# Altium footprint library CustomFootprints.PcbLib: 67 footprints (part 2 of 5)
Each footprint in its own frame and in the unit in brackets; x right, y up, seen from the top. Pads: shape width x height; smd on the part's side, far side on the other; paste and mask are expansions set on the pad; w line width, h text height; cw(c..) or ccw(c..) is an arc to the next point about the centre after c.
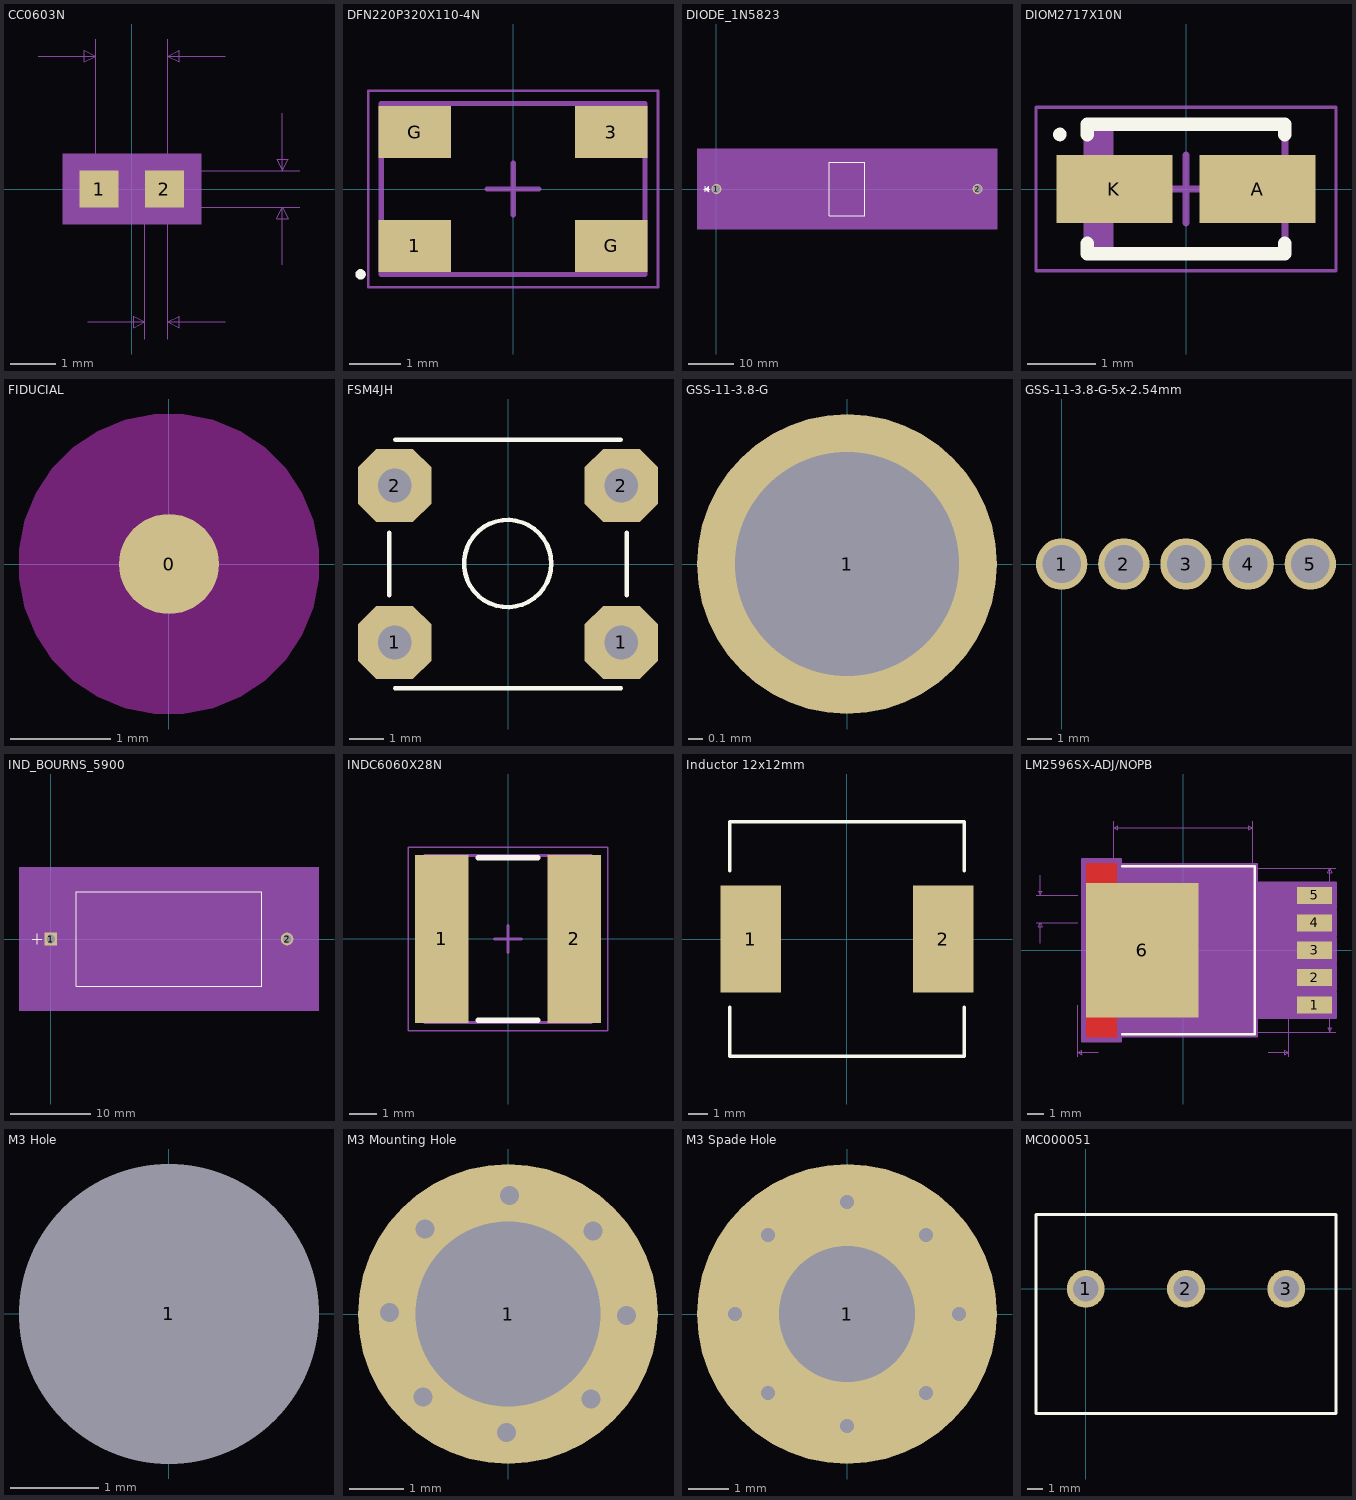
[diagram p1: the footprints below, top view; thin cyan lines are the x and y axes]

## CC0603N [mil]
pads (2):
  rect 34x32 smd: 1(-28.5,0) 2(28.5,0)
Mechanical 5:
  region: 60.5,-31 -60.5,-31 -60.5,31 60.5,31
Mechanical 7:
  lines w1: -81.5,116 -31.5,116 ; -38.5,-116 11.5,-116 ; -31.5,0 -31.5,131 ; 0,-16 146.5,-16 ; 0,16 146.5,16 ; 11.5,-131 11.5,0 ; 31.5,-131 31.5,0 31.5,131 ; 81.5,-116 31.5,-116 ; 81.5,116 31.5,116 ; 131.5,-66 131.5,-16 ; 131.5,66 131.5,16 ; -31.5,116 -41.5,111 -41.5,121 -31.5,116 ; 11.5,-116 1.5,-121 1.5,-111 11.5,-116 ; 31.5,-116 41.5,-121 41.5,-111 31.5,-116 ; 31.5,116 41.5,111 41.5,121 31.5,116 ; 131.5,-16 136.5,-26 126.5,-26 131.5,-16 ; 131.5,16 136.5,26 126.5,26 131.5,16
  text "0.02in/0.508mm" at -66,-161 h25
  text "0.063in/1.6mm" at -81.25,136 h25
  text "0.032in/0.813mm" at 151.5,-12.5 h25
  text "Alternate 2 Padstyle: OX90Y60D30P" at -412.5,-486 h50
  text "Alternate 1 Padstyle: OX60Y90D30P" at -412.5,-386 h50
  text "Default Padstyle: RX34Y32D0T" at -350,-286 h50
Mechanical 13:
  lines w1: -31.5,-16 -31.5,16 ; -31.5,-16 31.5,-16 ; -31.5,-16 -11.5,-16 -11.5,16 -31.5,16 ; -31.5,-16 -31.5,16 ; -31.5,16 31.5,16 ; 31.5,-16 31.5,16 ; 31.5,-16 31.5,16 ; 31.5,-16 11.5,-16 11.5,16 31.5,16
Mechanical 15:
  region: 55.5,-26 -55.5,-26 -55.5,26 55.5,26
  lines w6: -55.5,-26 55.5,-26 55.5,26 -55.5,26 -55.5,-26
3D body: height 10, standoff 0, extent 0,0 10,10

## DFN220P320X110-4N [mm] "DFN, 4-Leads, Body 5.00x3.20mm, Pitch 2.20mm, IPC Medium Density"
height 1.1
pads (4):
  rect 1.4x1 smd: 1(-1.9,-1.1) 3(1.9,1.1) G(-1.9,1.1) G(1.9,-1.1)
Top Overlay:
  circle w0.1: c-2.95,-1.65 r0.05
Mechanical 13:
  lines w0.1: -2.55,-1.65 -2.55,1.65 2.55,1.65 2.55,-1.65 -2.55,-1.65
Mechanical 15:
  lines w0.05: -2.8,-1.9 -2.8,1.9 2.8,1.9 2.8,-1.9 -2.8,-1.9
  lines w0.1: -0.5,0 0.5,0 ; 0,-0.5 0,0.5
3D body: height 1.1, standoff 0, extent -2.55,-1.65 2.55,1.65

## DIODE_1N5823 [mil]
pads (2):
  round 86 hole 66 mask+0: 1(0,0) 2(2260,0)
Top Overlay:
  lines w6: -108,0 -58,0 ; -98,-25 -98,25 ; -68,-20 -98,0 ; -68,-15 -98,0 ; -68,-10 -98,0 ; -68,-5 -98,0 ; -68,5 -98,0 ; -68,10 -98,0 ; -68,15 -98,0 ; -68,20 -98,0 ; -98,0 -68,25 -68,-25 -98,0 ; 975,-230 1285,-230 1285,230 975,230 975,-230
Mechanical 5:
  region: 2428,-350 -168,-350 -168,350 2428,350
Mechanical 7:
  lines w1: 0,-290 0,0 ; 980,225 980,290 ; 1280,-225 2375,-225 ; 1280,290 1280,225 2375,225 ; 2260,-290 2260,0 ; 0,-275 2260,-275 ; 0,-275 10,-270 10,-280 0,-275 ; 980,275 1280,275 ; 980,275 990,280 990,270 980,275 ; 1280,275 1270,280 1270,270 1280,275 ; 2260,-275 2250,-270 2250,-280 2260,-275 ; 2360,-225 2360,225 ; 2360,-225 2355,-215 2365,-215 2360,-225 ; 2360,225 2355,215 2365,215 2360,225
  text "Default Pad Style: EX86Y86D66P" at 755,-500 h50
  text "Alt 1 Pad Style: OX60Y90D30P" at 780,-575 h50
  text "Alt 2 Pad Style: OX90Y60D30P" at 780,-650 h50
  text "0.45in/11.43mm" at 2380,-12.5 h25
  text "2.26in/57.404mm" at 1036.25,-320 h25
  text "0.3in/7.62mm" at 1055,295 h25
Mechanical 13:
  lines w1: -108,0 -58,0 ; -98,-25 -98,25 ; -68,-20 -98,0 ; -68,-15 -98,0 ; -68,-10 -98,0 ; -68,-5 -98,0 ; -68,5 -98,0 ; -68,10 -98,0 ; -68,15 -98,0 ; -68,20 -98,0 ; 0,0 980,0 ; 1280,0 2260,0 ; -98,0 -68,25 -68,-25 -98,0 ; 980,-225 1280,-225 1280,225 980,225 980,-225
Mechanical 15:
  region: 970,-53 -53,-53 -53,53 970,53 970,235 1290,235 1290,53 2313,53 2313,-53 1290,-53 1290,-235 970,-235
  lines w6: -53,-53 -53,53 970,53 970,235 1290,235 1290,53 2313,53 2313,-53 1290,-53 1290,-235 970,-235 970,-53 -53,-53
3D body: height 10, standoff 0, extent 0,0 10,10

## DIOM2717X10N [mm] "Molded Diode, 2-Leads, Body 2.70x1.65mm, IPC Medium Density"
height 1
pads (2):
  rect 1.7x1 smd: A(1.05,0) K(-1.05,0)
Top Overlay:
  circle w0.1: c-1.85,0.8 r0.05
  lines w0.2: -1.45,-0.8 -1.45,-0.95 1.45,-0.95 1.45,-0.8 ; -1.45,0.8 -1.45,0.95 1.45,0.95 1.45,0.8
Mechanical 13:
  rectangle: -1.45,-0.9 -1.06,0.9
  lines w0.1: -1.45,-0.9 -1.45,0.9 1.45,0.9 1.45,-0.9 -1.45,-0.9
Mechanical 15:
  lines w0.05: -2.2,-1.2 -2.2,1.2 2.2,1.2 2.2,-1.2 -2.2,-1.2
  lines w0.1: -0.5,0 0.5,0 ; 0,-0.5 0,0.5
3D body: height 1, standoff 0, extent -1.45,-0.9 1.45,0.9

## FIDUCIAL [mm] "1mm fiducial with 3mm keepout"
pads (1):
  round 1 smd paste-1 mask+0.5: 0(0,0)
Keep-Out Layer:
  region: 0,-1.5 -0.148,-1.5 -0.438,-1.442 -0.711,-1.329 -0.956,-1.165 -1.165,-0.956 -1.329,-0.711 -1.442,-0.438 -1.5,-0.148 -1.5,0 -1.5,0.148 -1.442,0.438 -1.329,0.711 -1.165,0.956 -0.956,1.165 -0.711,1.329 -0.438,1.442 -0.148,1.5 0,1.5 0.148,1.5 0.438,1.442 0.711,1.329 0.956,1.165 1.165,0.956 1.329,0.711 1.442,0.438 1.5,0.148 1.5,0 1.5,-0.148 1.442,-0.438 1.329,-0.711 1.165,-0.956 0.956,-1.165 0.711,-1.329 0.438,-1.442 0.148,-1.5

## FSM4JH [mm] "SWITCH, SPNO, 0.05A"
height 5
pads (4):
  oct 2.1x2.1 hole 0.965: 1(-3.25,-2.25) 1(3.25,-2.25) 2(-3.25,2.25) 2(3.25,2.25)
Top Overlay:
  circle w0.127: c-0.011,0.014 r1.25
  lines w0.127: -3.4,-0.9 -3.4,0.9 ; -3.239,-3.556 3.24,-3.556 ; -3.236,3.556 3.236,3.556 ; 3.4,-0.9 3.4,0.9

## GSS-11-3.8-G [mm] "Contact Probe"
height 8.75
pads (1):
  round 2.1 hole 1.57: 1(0,0)

## GSS-11-3.8-G-5x-2.54mm [mm] "Contact Probe x5"
height 8.75
pads (5):
  round 2.1 hole 1.57: 1(0,0) 2(2.54,0) 3(5.08,0) 4(7.62,0) 5(10.16,0)

## IND_BOURNS_5900 [mil]
pads (2):
  rect 62x62 hole 42 mask+0: 1(0,0)
  round 62 hole 42 mask+0: 2(1156,0)
Top Overlay:
  lines w6: -91,0 -44.1,0 ; -66,-25 -66,25 ; 123,-231.5 1033,-231.5 1033,231.5 123,231.5 123,-231.5
Mechanical 5:
  region: 1312,-351.5 -156,-351.5 -156,351.5 1312,351.5
Mechanical 7:
  lines w1: 0,-291.5 0,0 ; 128,226.5 128,291.5 ; 1028,-226.5 1271,-226.5 ; 1028,291.5 1028,226.5 1271,226.5 ; 1156,-291.5 1156,0 ; 0,-276.5 1156,-276.5 ; 0,-276.5 10,-271.5 10,-281.5 0,-276.5 ; 128,276.5 1028,276.5 ; 128,276.5 138,281.5 138,271.5 128,276.5 ; 1028,276.5 1018,281.5 1018,271.5 1028,276.5 ; 1156,-276.5 1146,-271.5 1146,-281.5 1156,-276.5 ; 1256,-226.5 1256,226.5 ; 1256,-226.5 1251,-216.5 1261,-216.5 1256,-226.5 ; 1256,226.5 1251,216.5 1261,216.5 1256,226.5
  text "Pin 1 Pad Style: SX62Y62D42P" at 228,-426.5 h50
  text "Default Pad Style: EX62Y62D42P" at 203,-501.5 h50
  text "Alt 1 Pad Style: OX60Y90D30P" at 228,-576.5 h50
  text "Alt 2 Pad Style: OX90Y60D30P" at 228,-651.5 h50
  text "0.453in/11.506mm" at 1276,-12.5 h25
  text "1.156in/29.362mm" at 478,-321.5 h25
  text "0.9in/22.86mm" at 496.75,296.5 h25
Mechanical 13:
  lines w1: -91,0 -41,0 ; -66,-25 -66,25 ; 0,0 128,0 ; 1028,0 1156,0 ; 128,-226.5 1028,-226.5 1028,226.5 128,226.5 128,-226.5
Mechanical 15:
  region: 118,-41 -41,-41 -41,41 118,41 118,236.5 1038,236.5 1038,41 1197,41 1197,-41 1038,-41 1038,-236.5 118,-236.5
  lines w6: -41,-41 -41,41 118,41 118,236.5 1038,236.5 1038,41 1197,41 1197,-41 1038,-41 1038,-236.5 118,-236.5 118,-41 -41,-41
3D body: height 10, standoff 0, extent 0,0 10,10

## INDC6060X28N [mm] "Chip Inductor, 2-Leads, Body 6.00x6.00mm, IPC Medium Density"
height 2.8
pads (2):
  rect 1.98x6.22 smd: 1(-2.46,0) 2(2.46,0)
Top Overlay:
  lines w0.2: -1.1,-3.01 1.1,-3.01 ; -1.1,3.01 1.1,3.01
Mechanical 13:
  lines w0.1: -3.1,-3.1 -3.1,3.1 3.1,3.1 3.1,-3.1 -3.1,-3.1
Mechanical 15:
  lines w0.05: -3.7,-3.4 -3.7,3.4 3.7,3.4 3.7,-3.4 -3.7,-3.4
  lines w0.1: -0.5,0 0.5,0 ; 0,-0.5 0,0.5
3D body: height 2.8, standoff 0, extent -1.75,-3.1 1.75,3.1
3D body: height 2.8, standoff 0, extent -3.1,-3.1 -1.75,3.1
3D body: height 2.8, standoff 0, extent 1.75,-3.1 3.1,3.1

## Inductor 12x12mm [mm]
pads (2):
  rect 3.1x5.5 smd: 1(-4.925,0) 2(4.925,0)
Top Overlay:
  lines w0.2: -6,-3.5 -6,-6 6,-6 6,-3.5 ; -6,3.5 -6,6 6,6 6,3.5

## LM2596SX-ADJ/NOPB [mil]
pads (6):
  rect 85x42 smd paste+0 mask+0: 1(321,-134) 2(321,-67) 3(321,0) 4(321,67) 5(321,134)
  rect 275x328 smd paste-163.5 mask+0: 6(-100,0)
Top Layer:
  region: -237.5,-212.5 -237.5,212.5 -162.5,212.5 -162.5,-212.5
Top Overlay:
  lines w6: -149.4,-205 175,-205 175,205 -149.4,205
Top Paste:
  region: -86.44,160.06 -133.56,160.06 -133.56,113.27 -86.44,113.27
  region: -86.44,105.4 -133.56,105.4 -133.56,58.6 -86.44,58.6
  region: -86.44,50.73 -133.56,50.73 -133.56,3.94 -86.44,3.94
  region: -86.44,-3.94 -133.56,-3.94 -133.56,-50.73 -86.44,-50.73
  region: -86.44,-58.6 -133.56,-58.6 -133.56,-105.4 -86.44,-105.4
  region: -86.44,-113.27 -133.56,-113.27 -133.56,-160.06 -86.44,-160.06
  region: -31.44,160.06 -78.56,160.06 -78.56,113.27 -31.44,113.27
  region: -31.44,105.4 -78.56,105.4 -78.56,58.6 -31.44,58.6
  region: -31.44,50.73 -78.56,50.73 -78.56,3.94 -31.44,3.94
  region: -31.44,-3.94 -78.56,-3.94 -78.56,-50.73 -31.44,-50.73
  region: -31.44,-58.6 -78.56,-58.6 -78.56,-105.4 -31.44,-105.4
  region: -31.44,-113.27 -78.56,-113.27 -78.56,-160.06 -31.44,-160.06
  region: 23.56,160.06 -23.56,160.06 -23.56,113.27 23.56,113.27
  region: 23.56,105.4 -23.56,105.4 -23.56,58.6 23.56,58.6
  region: 23.56,50.73 -23.56,50.73 -23.56,3.94 23.56,3.94
  region: 23.56,-3.94 -23.56,-3.94 -23.56,-50.73 23.56,-50.73
  region: 23.56,-58.6 -23.56,-58.6 -23.56,-105.4 23.56,-105.4
  region: 23.56,-113.27 -23.56,-113.27 -23.56,-160.06 23.56,-160.06
  region: 78.56,160.06 31.44,160.06 31.44,113.27 78.56,113.27
  region: 78.56,105.4 31.44,105.4 31.44,58.6 78.56,58.6
  region: 78.56,50.73 31.44,50.73 31.44,3.94 78.56,3.94
  region: 78.56,-3.94 31.44,-3.94 31.44,-50.73 78.56,-50.73
  region: 78.56,-58.6 31.44,-58.6 31.44,-105.4 78.56,-105.4
  region: 78.56,-113.27 31.44,-113.27 31.44,-160.06 78.56,-160.06
  region: 133.56,160.06 86.44,160.06 86.44,113.27 133.56,113.27
  region: 133.56,105.4 86.44,105.4 86.44,58.6 133.56,58.6
  region: 133.56,50.73 86.44,50.73 86.44,3.94 133.56,3.94
  region: 133.56,-3.94 86.44,-3.94 86.44,-50.73 133.56,-50.73
  region: 133.56,-58.6 86.44,-58.6 86.44,-105.4 133.56,-105.4
  region: 133.56,-113.27 86.44,-113.27 86.44,-160.06 133.56,-160.06
  region: -237.5,-212.5 -237.5,212.5 -162.5,212.5 -162.5,-212.5
Top Solder:
  region: -237.5,-212.5 -237.5,212.5 -162.5,212.5 -162.5,-212.5
Mechanical 5:
  region: -247.5,-222.5 -247.5,222.5 -152.5,222.5 -152.5,210 180,210 180,165 373.5,165 373.5,-165 180,-165 180,-210 -152.5,-210 -152.5,-222.5
Mechanical 7:
  lines w1: -360.25,67 -257.75,67 ; -360.25,134 -257.75,134 ; -350.25,17 -350.25,67 ; -350.25,184 -350.25,134 ; -257.75,-260 -257.75,-134 ; -207.75,-250 -257.75,-250 ; -170,200 -170,315 ; 170,-200 372.75,-200 ; 170,315 170,200 372.75,200 ; 207.75,-250 257.75,-250 ; 257.75,-260 257.75,-134 ; -350.25,67 -345.25,57 -355.25,57 -350.25,67 ; -350.25,134 -345.25,144 -355.25,144 -350.25,134 ; -257.75,-250 -247.75,-255 -247.75,-245 -257.75,-250 ; -170,300 170,300 ; -170,300 -160,305 -160,295 -170,300 ; 170,300 160,305 160,295 170,300 ; 257.75,-250 247.75,-255 247.75,-245 257.75,-250 ; 357.75,-200 357.75,200 ; 357.75,-200 352.75,-190 362.75,-190 357.75,-200 ; 357.75,200 352.75,190 362.75,190 357.75,200
  text "Default Padstyle: RX85Y42D0T" at -350,-400 h50
  text "Pin 1 Padstyle: RX85Y42D0T" at -325,-460 h50
  text "Heat Tab Padstyle: RX275Y328D0T" at -387.5,-520 h50
  text "Alt 1 Padstyle: OX60Y90D30P" at -337.5,-640 h50
  text "Alt 2 Padstyle: OX90Y60D30P" at -337.5,-700 h50
  text ".067in/1.702mm" at -535.25,88 h25
  text ".5155in/13.094mm" at -100,-275 h25
  text "0.34in/8.636mm" at -87.5,320 h25
  text "0.4in/10.16mm" at 377.75,-12.5 h25
Mechanical 13:
  circle w0: c-160,134 r3
  lines w0: -12,200 ccw(c0,200) 12,200
  lines w1: -170,-200 170,-200 170,200 -170,200 -170,-200
Mechanical 15:
  region: -247.5,-222.5 -247.5,222.5 -152.5,222.5 -152.5,210 180,210 180,165 373.5,165 373.5,-165 180,-165 180,-210 -152.5,-210 -152.5,-222.5
  lines w6: 175,98.29 373.5,98 373.5,36 180,36 180,31 373.5,31 373.5,-31 180,-31 180,-36 373.5,-36 373.5,-98 180,-98 180,-103 373.5,-103 373.5,-165 180,-165 180,-210 ; 180,98 180,103 373.5,103 373.5,165 180,165 180,210 -152.5,210 ; -152.5,-210 180,-210 ; -152.5,-210 180,-210 ; -152.5,-210 -152.5,-222.5 -247.5,-222.5 -247.5,222.5 -152.5,222.5 ; -152.5,210 -152.5,222.5 ; -152.5,210 -152.5,222.5
3D body: height 10, standoff 0, extent 0,0 10,10

## M3 Hole [mm] "M3 Hole with no copper"
pads (1):
  round 3 hole 3.4 unplated: 1(0,0)

## M3 Mounting Hole [mm]
pads (1):
  round 5.5 hole 3.4: 1(0,0)
via 1.52,-1.556 diameter 0.7 hole 0.35
via -0.025,-2.175 diameter 0.7 hole 0.35
via -1.556,-1.52 diameter 0.7 hole 0.35
via -2.175,0.025 diameter 0.7 hole 0.35
via -1.52,1.556 diameter 0.7 hole 0.35
via 0.025,2.175 diameter 0.7 hole 0.35
via 1.556,1.52 diameter 0.7 hole 0.35
via 2.175,-0.025 diameter 0.7 hole 0.35

## M3 Spade Hole [mm]
pads (1):
  round 7.5 hole 3.4: 1(0,0)
via 2.8,0 diameter 0.7 hole 0.35
via 1.98,1.98 diameter 0.7 hole 0.35
via 0,2.8 diameter 0.7 hole 0.35
via -1.98,1.98 diameter 0.7 hole 0.35
via -2.8,0 diameter 0.7 hole 0.35
via -1.98,-1.98 diameter 0.7 hole 0.35
via 0,-2.8 diameter 0.7 hole 0.35
via 1.98,-1.98 diameter 0.7 hole 0.35

## MC000051 [mm] "TERMINAL BLOCK, WIRE TO BRD, 3POS, 10AWG"
height 22
pads (3):
  round 2.4 hole 1.6: 1(0,0) 2(6.35,0) 3(12.7,0)
Top Overlay:
  lines w0.2: -3.15,-7.9 -3.15,4.7 15.85,4.7 15.85,-7.9 -3.15,-7.9